# Altium footprint library CSS-73B16K-SMT.PcbLib: 1 footprints
Each footprint in its own frame and in the unit in brackets; x right, y up, seen from the top. Pads: shape width x height; smd on the part's side, far side on the other; paste and mask are expansions set on the pad; w line width, h text height; cw(c..) or ccw(c..) is an arc to the next point about the centre after c.
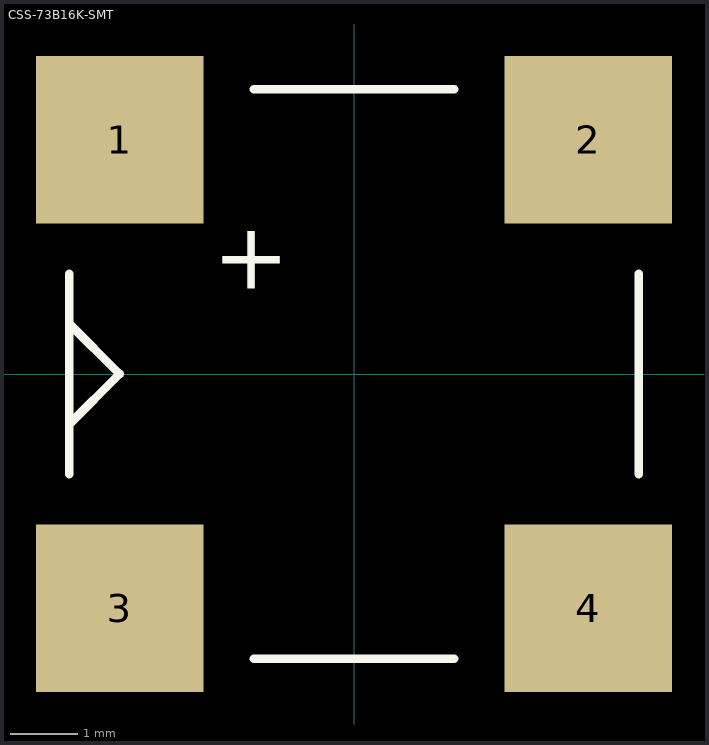
[diagram p0: the footprint, top view; thin cyan lines are the x and y axes]

## CSS-73B16K-SMT [mm]
pads (4):
  rect 2.5x2.5 smd: 1(-3.5,3.5) 2(3.5,3.5) 3(-3.5,-3.5) 4(3.5,-3.5)
Top Overlay:
  lines w0.127: -4.25,-1.5 -4.25,1.5 ; -4.25,-0.75 -3.5,0 -4.25,0.75 ; -1.5,-4.25 1.5,-4.25 ; -1.5,4.25 1.5,4.25 ; 4.25,-1.5 4.25,1.5
  text "+" at -2.108,1.27 h1
3D body: height 4, standoff -0.01, extent -4.25,-4.242 4.25,4.258